# Altium schematic symbol library CAP.SchLib: 3 symbols
Pins are listed as number, name and electrical type; pins without a type are passive.

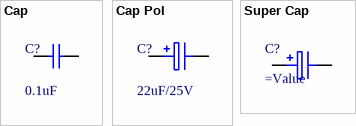
[diagram p0: symbols Cap to Super Cap]

## Cap
designator C?, comment 0.1uF
Capacitor; Published: 8-Jun-2000; LatestRevisionDate: 17-Jul-2002; LatestRevisionNote: Re-released for DXP Platform.; PackageReference: RAD-0.3; Publisher: Altium Limited; Value: 0.1uF
pins: 1, 2

## Cap Pol
designator C?, comment 22uF/25V
Polarized Capacitor; Published: 8-Jun-2000; LatestRevisionDate: 17-Jul-2002; LatestRevisionNote: Re-released for DXP Platform.; PackageReference: RB7.6-15; Publisher: Altium Limited; Value: 22uF/25V
footprint CAP-TA-3216A
footprint CAP-TA-3528b
footprint CAP-TA-6032c
footprint CAP-TA-7343D
footprint CAP-TA-7343E
footprint CAPPR2.0-5X8-0.6
footprint CAPPR2.5-6.3X11-0.5
footprint CAPPR5.0-8.0X11-0.8
footprint CAPPR5.0-10X16-0.8
footprint CAPPR-4.3X4.3-SM
footprint CAPPR-6.6X6.6-SM
footprint CAPPR-10X10-SM
footprint CAPPR2.0-5X11-0.6
footprint CAPPR5.0-10X12.5-0.8
footprint CAPPR5.0-10X20-0.8
footprint CAP_SUPER_SMD_R6.8*H1.4
pins: 1, 2

## Super Cap
designator C?
pins: 1, 2